# EAGLE library part MCIMX233DAG4B (library LITTLEBITS140826)
i.MX23
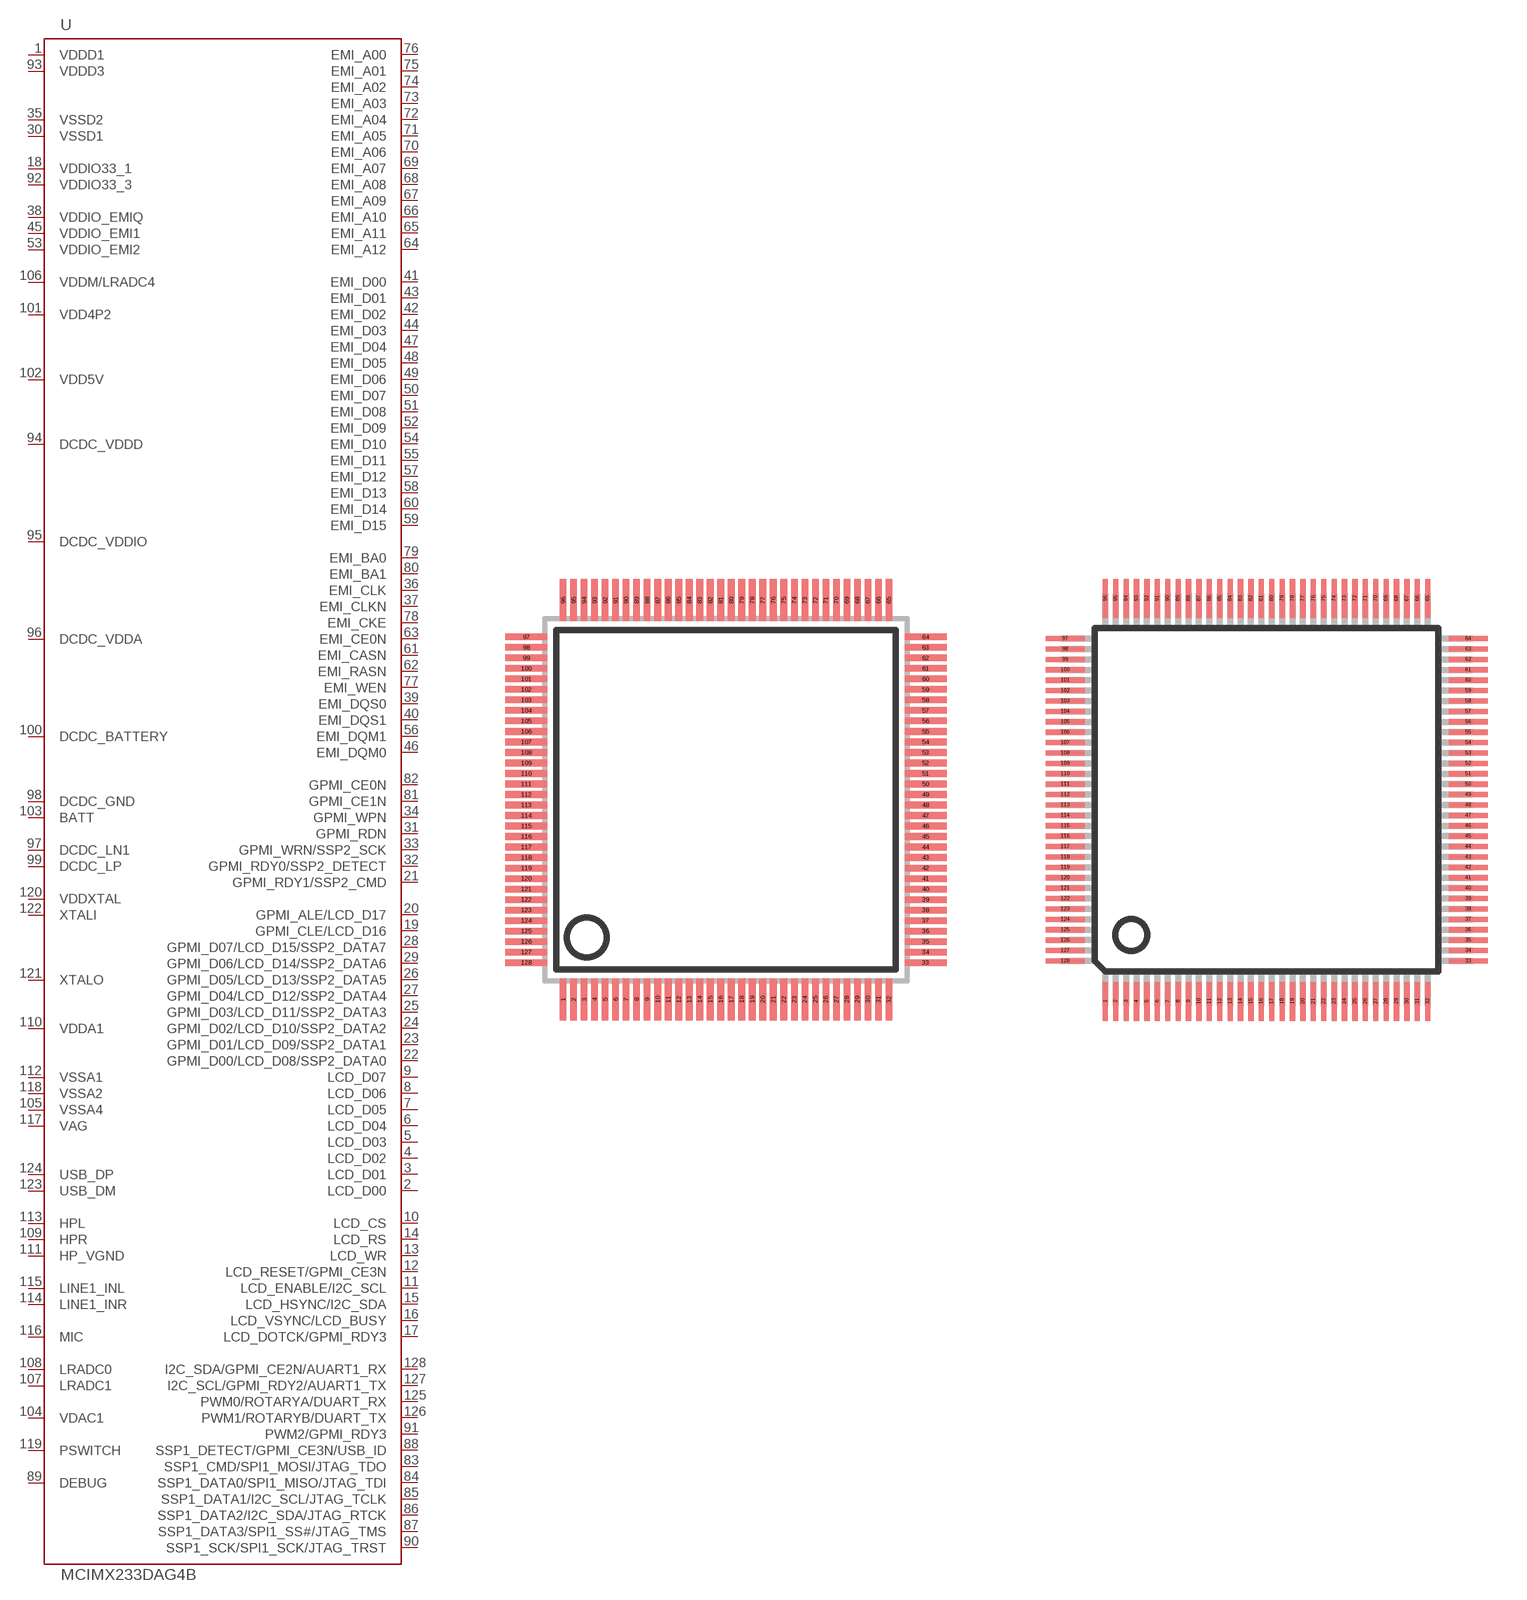
[diagram p73: symbol with the pads of TQFP128; footprints TQFP128, TQFP128LD]

Designator prefix U

## MCIMX233DAG4B  [TQFP128]
1  VDDD1  pwr
2  LCD_D00
3  LCD_D01
4  LCD_D02
5  LCD_D03
6  LCD_D04
7  LCD_D05
8  LCD_D06
9  LCD_D07
10  LCD_CS
11  LCD_ENABLE/I2C_SCL
12  LCD_RESET/GPMI_CE3N
13  LCD_WR
14  LCD_RS
15  LCD_HSYNC/I2C_SDA
16  LCD_VSYNC/LCD_BUSY
17  LCD_DOTCK/GPMI_RDY3
18  VDDIO33_1  pwr
19  GPMI_CLE/LCD_D16
20  GPMI_ALE/LCD_D17
21  GPMI_RDY1/SSP2_CMD
22  GPMI_D00/LCD_D08/SSP2_DATA0
23  GPMI_D01/LCD_D09/SSP2_DATA1
24  GPMI_D02/LCD_D10/SSP2_DATA2
25  GPMI_D03/LCD_D11/SSP2_DATA3
26  GPMI_D05/LCD_D13/SSP2_DATA5
27  GPMI_D04/LCD_D12/SSP2_DATA4
28  GPMI_D07/LCD_D15/SSP2_DATA7
29  GPMI_D06/LCD_D14/SSP2_DATA6
30  VSSD1  pwr
31  GPMI_RDN
32  GPMI_RDY0/SSP2_DETECT
33  GPMI_WRN/SSP2_SCK
34  GPMI_WPN
35  VSSD2  pwr
36  EMI_CLK  out
37  EMI_CLKN  out
38  VDDIO_EMIQ  pwr
39  EMI_DQS0  out
40  EMI_DQS1  out
41  EMI_D00
42  EMI_D02
43  EMI_D01
44  EMI_D03
45  VDDIO_EMI1  pwr
46  EMI_DQM0  out
47  EMI_D04
48  EMI_D05
49  EMI_D06
50  EMI_D07
51  EMI_D08
52  EMI_D09
53  VDDIO_EMI2  pwr
54  EMI_D10
55  EMI_D11
56  EMI_DQM1  out
57  EMI_D12
58  EMI_D13
59  EMI_D15
60  EMI_D14
61  EMI_CASN  out
62  EMI_RASN  out
63  EMI_CE0N  out
64  EMI_A12
65  EMI_A11
66  EMI_A10
67  EMI_A09
68  EMI_A08
69  EMI_A07
70  EMI_A06
71  EMI_A05
72  EMI_A04
73  EMI_A03
74  EMI_A02
75  EMI_A01
76  EMI_A00
77  EMI_WEN  out
78  EMI_CKE  out
79  EMI_BA0  out
80  EMI_BA1  out
81  GPMI_CE1N
82  GPMI_CE0N
83  SSP1_CMD/SPI1_MOSI/JTAG_TDO
84  SSP1_DATA0/SPI1_MISO/JTAG_TDI
85  SSP1_DATA1/I2C_SCL/JTAG_TCLK
86  SSP1_DATA2/I2C_SDA/JTAG_RTCK
87  SSP1_DATA3/SPI1_SS#/JTAG_TMS
88  SSP1_DETECT/GPMI_CE3N/USB_ID
89  DEBUG
90  SSP1_SCK/SPI1_SCK/JTAG_TRST
91  PWM2/GPMI_RDY3
92  VDDIO33_3  pwr
93  VDDD3  pwr
94  DCDC_VDDD  sup
95  DCDC_VDDIO  sup
96  DCDC_VDDA  sup
97  DCDC_LN1  pas
98  DCDC_GND  pwr
99  DCDC_LP  pas
100  DCDC_BATTERY  pwr
101  VDD4P2  sup
102  VDD5V  pwr
103  BATT  in
104  VDAC1  out
105  VSSA4  pwr
106  VDDM/LRADC4  sup
107  LRADC1
108  LRADC0
109  HPR  out
110  VDDA1  pwr
111  HP_VGND  pwr
112  VSSA1  pwr
113  HPL  out
114  LINE1_INR  in
115  LINE1_INL  in
116  MIC  in
117  VAG  pas
118  VSSA2  pwr
119  PSWITCH  in
120  VDDXTAL  pas
121  XTALO  out
122  XTALI  in
123  USB_DM
124  USB_DP
125  PWM0/ROTARYA/DUART_RX
126  PWM1/ROTARYB/DUART_TX
127  I2C_SCL/GPMI_RDY2/AUART1_TX
128  I2C_SDA/GPMI_CE2N/AUART1_RX

## MCIMX233DAG4B_LD  [TQFP128LD]
Pads as for TQFP128

## Footprint TQFP128 (pad centres in mm)
128 LD TQFP 14x14 package 0.4 pitch 1.4 thick case mumber 929-01
smd 0.25 x 1.6: 1 -6.2,-7.6; 2 -5.8,-7.6; 3 -5.4,-7.6; 4 -5,-7.6; 5 -4.6,-7.6; 6 -4.2,-7.6; 7 -3.8,-7.6; 8 -3.4,-7.6; 9 -3,-7.6; 10 -2.6,-7.6; 11 -2.2,-7.6; 12 -1.8,-7.6; 13 -1.4,-7.6; 14 -1,-7.6; 15 -0.6,-7.6; 16 -0.2,-7.6; 17 0.2,-7.6; 18 0.6,-7.6; 19 1,-7.6; 20 1.4,-7.6; 21 1.8,-7.6; 22 2.2,-7.6; 23 2.6,-7.6; 24 3,-7.6; 25 3.4,-7.6; 26 3.8,-7.6; 27 4.2,-7.6; 28 4.6,-7.6; 29 5,-7.6; 30 5.4,-7.6; 31 5.8,-7.6; 32 6.2,-7.6; 65 6.2,7.6; 66 5.8,7.6; 67 5.4,7.6; 68 5,7.6; 69 4.6,7.6; 70 4.2,7.6; 71 3.8,7.6; 72 3.4,7.6; 73 3,7.6; 74 2.6,7.6; 75 2.2,7.6; 76 1.8,7.6; 77 1.4,7.6; 78 1,7.6; 79 0.6,7.6; 80 0.2,7.6; 81 -0.2,7.6; 82 -0.6,7.6; 83 -1,7.6; 84 -1.4,7.6; 85 -1.8,7.6; 86 -2.2,7.6; 87 -2.6,7.6; 88 -3,7.6; 89 -3.4,7.6; 90 -3.8,7.6; 91 -4.2,7.6; 92 -4.6,7.6; 93 -5,7.6; 94 -5.4,7.6; 95 -5.8,7.6; 96 -6.2,7.6
smd 1.6 x 0.25: 33 7.6,-6.2; 34 7.6,-5.8; 35 7.6,-5.4; 36 7.6,-5; 37 7.6,-4.6; 38 7.6,-4.2; 39 7.6,-3.8; 40 7.6,-3.4; 41 7.6,-3; 42 7.6,-2.6; 43 7.6,-2.2; 44 7.6,-1.8; 45 7.6,-1.4; 46 7.6,-1; 47 7.6,-0.6; 48 7.6,-0.2; 49 7.6,0.2; 50 7.6,0.6; 51 7.6,1; 52 7.6,1.4; 53 7.6,1.8; 54 7.6,2.2; 55 7.6,2.6; 56 7.6,3; 57 7.6,3.4; 58 7.6,3.8; 59 7.6,4.2; 60 7.6,4.6; 61 7.6,5; 62 7.6,5.4; 63 7.6,5.8; 64 7.6,6.2; 97 -7.6,6.2; 98 -7.6,5.8; 99 -7.6,5.4; 100 -7.6,5; 101 -7.6,4.6; 102 -7.6,4.2; 103 -7.6,3.8; 104 -7.6,3.4; 105 -7.6,3; 106 -7.6,2.6; 107 -7.6,2.2; 108 -7.6,1.8; 109 -7.6,1.4; 110 -7.6,1; 111 -7.6,0.6; 112 -7.6,0.2; 113 -7.6,-0.2; 114 -7.6,-0.6; 115 -7.6,-1; 116 -7.6,-1.4; 117 -7.6,-1.8; 118 -7.6,-2.2; 119 -7.6,-2.6; 120 -7.6,-3; 121 -7.6,-3.4; 122 -7.6,-3.8; 123 -7.6,-4.2; 124 -7.6,-4.6; 125 -7.6,-5; 126 -7.6,-5.4; 127 -7.6,-5.8; 128 -7.6,-6.2

## Footprint TQFP128LD (pad centres in mm)
128 LDTQFP (case number 929-01), edited by Yassen body 14x14 mm pitch 0.4 mm pads 1.5 x 0.2 mm
smd 0.2 x 1.5: 1 -6.2,-7.75; 2 -5.8,-7.75; 3 -5.4,-7.75; 4 -5,-7.75; 5 -4.6,-7.75; 6 -4.2,-7.75; 7 -3.8,-7.75; 8 -3.4,-7.75; 9 -3,-7.75; 10 -2.6,-7.75; 11 -2.2,-7.75; 12 -1.8,-7.75; 13 -1.4,-7.75; 14 -1,-7.75; 15 -0.6,-7.75; 16 -0.2,-7.75; 17 0.2,-7.75; 18 0.6,-7.75; 19 1,-7.75; 20 1.4,-7.75; 21 1.8,-7.75; 22 2.2,-7.75; 23 2.6,-7.75; 24 3,-7.75; 25 3.4,-7.75; 26 3.8,-7.75; 27 4.2,-7.75; 28 4.6,-7.75; 29 5,-7.75; 30 5.4,-7.75; 31 5.8,-7.75; 32 6.2,-7.75; 65 6.2,7.75; 66 5.8,7.75; 67 5.4,7.75; 68 5,7.75; 69 4.6,7.75; 70 4.2,7.75; 71 3.8,7.75; 72 3.4,7.75; 73 3,7.75; 74 2.6,7.75; 75 2.2,7.75; 76 1.8,7.75; 77 1.4,7.75; 78 1,7.75; 79 0.6,7.75; 80 0.2,7.75; 81 -0.2,7.75; 82 -0.6,7.75; 83 -1,7.75; 84 -1.4,7.75; 85 -1.8,7.75; 86 -2.2,7.75; 87 -2.6,7.75; 88 -3,7.75; 89 -3.4,7.75; 90 -3.8,7.75; 91 -4.2,7.75; 92 -4.6,7.75; 93 -5,7.75; 94 -5.4,7.75; 95 -5.8,7.75; 96 -6.2,7.75
smd 1.5 x 0.2: 33 7.75,-6.2; 34 7.75,-5.8; 35 7.75,-5.4; 36 7.75,-5; 37 7.75,-4.6; 38 7.75,-4.2; 39 7.75,-3.8; 40 7.75,-3.4; 41 7.75,-3; 42 7.75,-2.6; 43 7.75,-2.2; 44 7.75,-1.8; 45 7.75,-1.4; 46 7.75,-1; 47 7.75,-0.6; 48 7.75,-0.2; 49 7.75,0.2; 50 7.75,0.6; 51 7.75,1; 52 7.75,1.4; 53 7.75,1.8; 54 7.75,2.2; 55 7.75,2.6; 56 7.75,3; 57 7.75,3.4; 58 7.75,3.8; 59 7.75,4.2; 60 7.75,4.6; 61 7.75,5; 62 7.75,5.4; 63 7.75,5.8; 64 7.75,6.2; 97 -7.75,6.2; 98 -7.75,5.8; 99 -7.75,5.4; 100 -7.75,5; 101 -7.75,4.6; 102 -7.75,4.2; 103 -7.75,3.8; 104 -7.75,3.4; 105 -7.75,3; 106 -7.75,2.6; 107 -7.75,2.2; 108 -7.75,1.8; 109 -7.75,1.4; 110 -7.75,1; 111 -7.75,0.6; 112 -7.75,0.2; 113 -7.75,-0.2; 114 -7.75,-0.6; 115 -7.75,-1; 116 -7.75,-1.4; 117 -7.75,-1.8; 118 -7.75,-2.2; 119 -7.75,-2.6; 120 -7.75,-3; 121 -7.75,-3.4; 122 -7.75,-3.8; 123 -7.75,-4.2; 124 -7.75,-4.6; 125 -7.75,-5; 126 -7.75,-5.4; 127 -7.75,-5.8; 128 -7.75,-6.2